# Altium schematic symbol library Mosfet-BLE-Bot-Osc.SchLib: 4 symbols
Pins are listed as number, name and electrical type; pins without a type are passive.

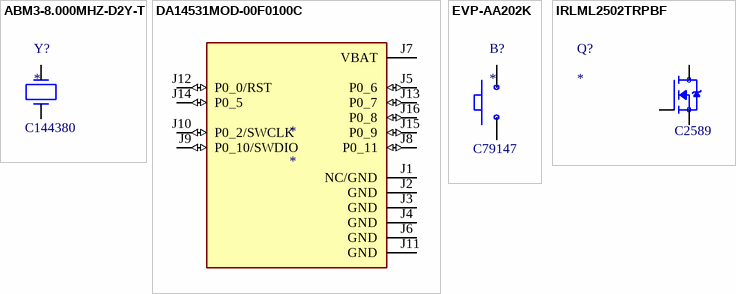
[diagram p0: symbols ABM3-8.000MHZ-D2Y-T to IRLML2502TRPBF]

## ABM3-8.000MHZ-D2Y-T
designator Y?  LCSC: C144380
Crystal 8MHz ±20ppm (Tol) ±30ppm (Stability) 18pF FUND 140Ohm 2-Pin Mini-CSMD T/R; Manufacturer: Abracon; Manufacturer Part Number: ABM3-8.000MHZ-D2Y-T; ESR (Equivalent Series Resistance): 140Ω; Frequency Tolerance: 0.002%; Supplier: DigiKey; Supplier Part Number: 535-10630-1-ND; RoHS: Compliant; Category: Crystals; Stock: 32401; Pricing: 1=0,67, 10=0,585, 25=0,5536, 50=0,5306, 100=0,5087, 250=0,48104, 500=0,46114 (USD); Case/Package: CSMD; China RoHS: Non-Compliant; Composition: Ceramic; Depth: 3.2mm; Frequency: 8MHz; Frequency Stability: 30ppm; Height: 1.3mm; Lead Free: Lead Free; Length: 5mm; Lifecycle Status: Production; Load Capacitance: 18pF; Max Operating Temperature: 85°C; Min Operating Temperature: -40°C; Mounting Technology: Surface Mount; Pins: 2; Packaging: Cut Tape; Radiation Hardening: No; REACH SVHC: Yes; Schedule B: 8541600025, 8541600025|8541600025|8541600025|8541600025|8541600025|8541600025|8541600025|8541600025|8541600025|8541600025|8541600025|8541600025|8541600025|8541600025|8541600025|8541600025|8541600025|8541600025|8541600025|8541600025|8541600025|8541600025|8541600025|85; ESR: 140Ω; Termination: SMD/SMT; Tolerance: 0.002%; Width: 3.2mm; ComponentLink1URL: https://datasheet.octopart.com:443/ABM3-8.000MHZ-D2Y-T-Abracon-datasheet-182205007.pdf?src-supplier=TME; ComponentLink1Description: https://datasheet.octopart.com:443/ABM3-8.000MHZ-D2Y-T-Abracon-datasheet-182205007.pdf?src-supplier=TME; ComponentLink2URL: https://datasheet.octopart.com:443/ABM3-8.000MHZ-D2Y-T-Abracon-datasheet-32780515.pdf?src-supplier=element14+APAC; ComponentLink2Description: https://datasheet.octopart.com:443/ABM3-8.000MHZ-D2Y-T-Abracon-datasheet-32780515.pdf?src-supplier=element14+APAC; ComponentLink3URL: https://datasheet.octopart.com:443/ABM3-8.000MHZ-D2Y-T-Abracon-datasheet-13417521.pdf?src-supplier=element14+APAC; ComponentLink3Description: https://datasheet.octopart.com:443/ABM3-8.000MHZ-D2Y-T-Abracon-datasheet-13417521.pdf?src-supplier=element14+APAC; ComponentLink4URL: https://datasheet.octopart.com:443/ABM3-8.000MHZ-D2Y-T-Abracon-datasheet-8862594.pdf?src-supplier=element14+APAC; ComponentLink4Description: https://datasheet.octopart.com:443/ABM3-8.000MHZ-D2Y-T-Abracon-datasheet-8862594.pdf?src-supplier=element14+APAC; ComponentLink5URL: https://datasheet.octopart.com:443/ABM3-8.000MHZ-D2Y-T-Abracon-datasheet-8853172.pdf?src-supplier=element14+APAC; ComponentLink5Description: https://datasheet.octopart.com:443/ABM3-8.000MHZ-D2Y-T-Abracon-datasheet-8853172.pdf?src-supplier=element14+APAC; ComponentLink6URL: https://datasheet.octopart.com:443/ABM3-8.000MHZ-D2Y-T-Abracon-datasheet-8835795.pdf?src-supplier=element14+APAC; ComponentLink6Description: https://datasheet.octopart.com:443/ABM3-8.000MHZ-D2Y-T-Abracon-datasheet-8835795.pdf?src-supplier=element14+APAC; ComponentLink7URL: https://datasheet.octopart.com:443/ABM3-8.000MHZ-D2Y-T-Abracon-datasheet-8815637.pdf?src-supplier=element14+APAC; ComponentLink7Description: https://datasheet.octopart.com:443/ABM3-8.000MHZ-D2Y-T-Abracon-datasheet-8815637.pdf?src-supplier=element14+APAC; ComponentLink8URL: https://datasheet.octopart.com:443/ABM3-8.000MHZ-D2Y-T-Abracon-datasheet-8808528.pdf?src-supplier=element14+APAC; ComponentLink8Description: https://datasheet.octopart.com:443/ABM3-8.000MHZ-D2Y-T-Abracon-datasheet-8808528.pdf?src-supplier=element14+APAC; ComponentLink9URL: https://datasheet.octopart.com:443/ABM3-8.000MHZ-D2Y-T-Abracon-datasheet-8488864.pdf?src-supplier=element14+APAC; ComponentLink9Description: https://datasheet.octopart.com:443/ABM3-8.000MHZ-D2Y-T-Abracon-datasheet-8488864.pdf?src-supplier=element14+APAC; ComponentLink10URL: https://datasheet.octopart.com:443/ABM3-8.000MHZ-D2Y-T-Abracon-datasheet-8324950.pdf?src-supplier=element14+APAC; ComponentLink10Description: https://datasheet.octopart.com:443/ABM3-8.000MHZ-D2Y-T-Abracon-datasheet-8324950.pdf?src-supplier=element14+APAC; ComponentLink11URL: https://datasheet.octopart.com:443/ABM3-8.000MHZ-D2Y-T-Abracon-datasheet-577709.pdf?src-supplier=element14+APAC; ComponentLink11Description: https://datasheet.octopart.com:443/ABM3-8.000MHZ-D2Y-T-Abracon-datasheet-577709.pdf?src-supplier=element14+APAC; ComponentLink12URL: https://datasheet.octopart.com:443/ABM3-8.000MHZ-D2Y-T-Abracon-datasheet-154724144.pdf?src-supplier=Sager+Electronics; ComponentLink12Description: https://datasheet.octopart.com:443/ABM3-8.000MHZ-D2Y-T-Abracon-datasheet-154724144.pdf?src-supplier=Sager+Electronics; ComponentLink13URL: https://datasheet.octopart.com:443/ABM3-8.000MHZ-D2Y-T-Abracon-datasheet-128558659.pdf?src-supplier=X-ON; ComponentLink13Description: https://datasheet.octopart.com:443/ABM3-8.000MHZ-D2Y-T-Abracon-datasheet-128558659.pdf?src-supplier=X-ON; ComponentLink14URL: https://sigma.octopart.com:443/138895675/technical_drawing/Abracon-ABM3-8.000MHZ-D2Y-T.pdf?src-supplier=Abracon+SCT; ComponentLink14Description: https://sigma.octopart.com:443/138895675/technical_drawing/Abracon-ABM3-8.000MHZ-D2Y-T.pdf?src-supplier=Abracon+SCT; ComponentLink15URL: https://datasheet.octopart.com:443/ABM3-8.000MHZ-D2Y-T-Abracon-datasheet-12514944.pdf?src-supplier=Farnell; ComponentLink15Description: https://datasheet.octopart.com:443/ABM3-8.000MHZ-D2Y-T-Abracon-datasheet-12514944.pdf?src-supplier=Farnell; ComponentLink16URL: http://sigma.octopart.com:80/conflict_mineral_statement/Abracon-company-27.pdf?src-supplier=Compliance+Statements; ComponentLink16Description: http://sigma.octopart.com:80/conflict_mineral_statement/Abracon-company-27.pdf?src-supplier=Compliance+Statements
footprint cristal
pins: 1, 2

## DA14531MOD-00F0100C
designator *
SmartBond TINY Bluetooth Low Energy Module; Manufacturer: Renesas; Manufacturer Part Number: DA14531MOD-00F0100C; Part Family: DA14531MOD; Manufacturer Lifecycle Status: ACTIVE; Max Supply Voltage: 3.6V; Min Supply Voltage: 1.65V; Operating Supply Voltage: 3V; Pitch: 1.5mm; Supplier: Future Electronics; Supplier Part Number: 2153429; RoHS: Compliant; Category: RF Transceiver Modules and Modems; Stock: 300; Pricing: 300=3,38, 600=3,35, 900=3,34, 1200=3,31 (USD); Case/Package: Module; Export Control Classification Number (ECCN) Code: EAR99; Height - Seated (Max): 3.05mm; Harmonized Tariff Schedule (HTS) Code: 8542.39.90; Length: 14.5mm; Lifecycle Status: Production; Max Operating Temperature: 85°C; Min Operating Temperature: -40°C; MSL: 3; Pins: 15; Number of Terminals: 16; Package Quantity: 300; Packaging: Tape & Reel; REACH SVHC: Yes; Terminal Pitch: 1.5mm; Width: 12.5mm; ComponentLink1URL: https://datasheet.octopart.com:443/DA14531MOD-00F0100C-Renesas-datasheet-182587786.pdf?src-supplier=Renesas; ComponentLink1Description: https://datasheet.octopart.com:443/DA14531MOD-00F0100C-Renesas-datasheet-182587786.pdf?src-supplier=Renesas; ComponentLink2URL: https://datasheet.octopart.com:443/DA14531MOD-00F0100C-Renesas-datasheet-169923465.pdf?src-supplier=IHS; ComponentLink2Description: https://datasheet.octopart.com:443/DA14531MOD-00F0100C-Renesas-datasheet-169923465.pdf?src-supplier=IHS; ComponentLink3URL: https://datasheet.octopart.com:443/DA14531MOD-00F0100C-Integrated-Device-Technology-datasheet-179198600.pdf?src-supplier=Integrated+Device+Technology; ComponentLink3Description: https://datasheet.octopart.com:443/DA14531MOD-00F0100C-Integrated-Device-Technology-datasheet-179198600.pdf?src-supplier=Integrated+Device+Technology; ComponentLink4URL: https://datasheet.octopart.com:443/DA14531MOD-00F0100C-Integrated-Device-Technology-datasheet-164000627.pdf?src-supplier=Integrated+Device+Technology; ComponentLink4Description: https://datasheet.octopart.com:443/DA14531MOD-00F0100C-Integrated-Device-Technology-datasheet-164000627.pdf?src-supplier=Integrated+Device+Technology; ComponentLink5URL: http://sigma.octopart.com:80/reach_statement/Renesas-company-45.pdf?src-supplier=Compliance+Statements; ComponentLink5Description: http://sigma.octopart.com:80/reach_statement/Renesas-company-45.pdf?src-supplier=Compliance+Statements; ComponentLink6URL: http://sigma.octopart.com:80/conflict_mineral_statement/Renesas-company-44.pdf?src-supplier=Compliance+Statements; ComponentLink6Description: http://sigma.octopart.com:80/conflict_mineral_statement/Renesas-company-44.pdf?src-supplier=Compliance+Statements
footprint DA14531MOD
pins: J1 NC/GND, J2 GND (power), J3 GND (power), J4 GND (power), J5 P0_6 (io), J6 GND (power), J7 VBAT (power), J8 P0_11 (io), J9 P0_10/SWDIO (io), J10 P0_2/SWCLK (io), J11 GND (power), J12 P0_0/RST (io), J13 P0_7 (io), J14 P0_5 (io), J15 P0_9 (io), J16 P0_8 (io)

## EVP-AA202K
designator B?  LCSC: C79147
Switch Tactile N.O. SPST Rectangular Button J-Bend 0.02A 15VDC 1.6N SMD Embossed T/R; Manufacturer: Panasonic; Manufacturer Part Number: EVP-AA202K; Actuator Length: 300µm; Contact Current Rating: 20mA; Contact Resistance: 100mΩ; Current Rating: 50mA; Electrical Life: 200kcycles; Illumination Type: Illuminated, Non-Illuminated; Max Voltage Rating (DC): 15V; Number of Positions: 1; Switch Function: Off-Mom; Switch Travel: 150µm; Supplier: DigiKey; Supplier Part Number: P13348SCT-ND; RoHS: Compliant; Category: Tactile Switches; Stock: 45; Pricing: 1=0,83, 10=0,709, 25=0,6596, 100=0,5885, 250=0,54516, 500=0,51492, 1000=0,48712, 2500=0,45429 (USD); Case/Package: SMD/SMT; Color: Black; Contact Plating: Gold, Silver; Depth: 2.9mm; Height: 1.4mm; Insulation Resistance: 100MΩ; Lead Free: Lead Free; Length: 4.3mm; Lifecycle Status: Production; Max Current Rating: 20mA; Max Operating Temperature: 85°C; Mechanical Life: 200kcycles; Min Operating Temperature: -40°C; Mounting Technology: Surface Mount; Operating Force: 1.6N; Radiation Hardening: No; REACH SVHC: Yes; Termination: J-Bend; Throw Configuration: SPST; Voltage Rating (DC): 15V; ComponentLink1URL: https://datasheet.octopart.com:443/EVP-AA202K-Panasonic-datasheet-156880147.pdf?src-supplier=Newark; ComponentLink1Description: https://datasheet.octopart.com:443/EVP-AA202K-Panasonic-datasheet-156880147.pdf?src-supplier=Newark; ComponentLink2URL: https://datasheet.octopart.com:443/EVP-AA202K-Panasonic-datasheet-78834739.pdf?src-supplier=Newark; ComponentLink2Description: https://datasheet.octopart.com:443/EVP-AA202K-Panasonic-datasheet-78834739.pdf?src-supplier=Newark; ComponentLink3URL: https://datasheet.octopart.com:443/EVP-AA202K-Panasonic-datasheet-13050113.pdf?src-supplier=Upverter; ComponentLink3Description: https://datasheet.octopart.com:443/EVP-AA202K-Panasonic-datasheet-13050113.pdf?src-supplier=Upverter; ComponentLink4URL: https://datasheet.octopart.com:443/EVP-AA202K-Panasonic-datasheet-138897654.pdf?src-supplier=Master+Electronics; ComponentLink4Description: https://datasheet.octopart.com:443/EVP-AA202K-Panasonic-datasheet-138897654.pdf?src-supplier=Master+Electronics; ComponentLink5URL: https://datasheet.octopart.com:443/EVPAA202K-Panasonic-datasheet-130260647.pdf?src-supplier=TME; ComponentLink5Description: https://datasheet.octopart.com:443/EVPAA202K-Panasonic-datasheet-130260647.pdf?src-supplier=TME; ComponentLink6URL: https://datasheet.octopart.com:443/EVP-AA202K-Panasonic-datasheet-94103455.pdf?src-supplier=Future+Electronics; ComponentLink6Description: https://datasheet.octopart.com:443/EVP-AA202K-Panasonic-datasheet-94103455.pdf?src-supplier=Future+Electronics; ComponentLink7URL: https://datasheet.octopart.com:443/EVP-AA202K-Panasonic-datasheet-84052654.pdf?src-supplier=Future+Electronics; ComponentLink7Description: https://datasheet.octopart.com:443/EVP-AA202K-Panasonic-datasheet-84052654.pdf?src-supplier=Future+Electronics; ComponentLink8URL: https://datasheet.octopart.com:443/EVP-AA202K-Panasonic-datasheet-62282203.pdf?src-supplier=Electro+Sonic; ComponentLink8Description: https://datasheet.octopart.com:443/EVP-AA202K-Panasonic-datasheet-62282203.pdf?src-supplier=Electro+Sonic; ComponentLink9URL: https://datasheet.octopart.com:443/EVPAA202K-Panasonic-datasheet-10854221.pdf?src-supplier=Farnell; ComponentLink9Description: https://datasheet.octopart.com:443/EVPAA202K-Panasonic-datasheet-10854221.pdf?src-supplier=Farnell; ComponentLink10URL: https://datasheet.octopart.com:443/EVP-AA202K-Panasonic-datasheet-124616.pdf?src-supplier=DigiKey; ComponentLink10Description: https://datasheet.octopart.com:443/EVP-AA202K-Panasonic-datasheet-124616.pdf?src-supplier=DigiKey
footprint botão
pins: 1, 3 2

## IRLML2502TRPBF
designator Q?  LCSC: C2589
Transistor: N-MOSFET; unipolar; 12V; 4.3A; 0.05ohm; 1.3W; -55+150 deg.C; SMD; SOT23; Manufacturer: Infineon; Manufacturer Part Number: IRLML2502TRPBF; Manufacturer Package Identifier: Micro3™; Continuous Drain Current (ID): 4.2A; Drain to Source Breakdown Voltage: 20V; Drain to Source Resistance: 45mΩ; Element Configuration: Single; Fall Time: 26ns; Input Capacitance: 740pF; Max Junction Temperature (Tj): 150°C; Max Power Dissipation: 1.25W; Nominal Vgs: 1.2V; Number of Elements: 1; Value: 45mΩ; Rise Time: 10ns; Turn-Off Delay Time: 54ns; Turn-On Delay Time: 7.5ns; Supplier: DigiKey; Supplier Part Number: IRLML2502TRPBFCT-ND; RoHS: Compliant; Category: MOSFETs; Stock: 39178; Pricing: 1=0,52, 10=0,323, 100=0,2053, 500=0,15428, 1000=0,13782 (USD); Case/Package: SOT-23; Contact Plating: Tin; Current Rating: 4.2A; Drain to Source Voltage (Vdss): 20V; Dual Supply Voltage: 20V; Gate to Source Voltage (Vgs): 12V; Height: 1.016mm; Lead Free: Lead Free; Length: 2.794mm; Lifecycle Status: NRND; Max Operating Temperature: 150°C; Min Breakdown Voltage: 20V; Min Operating Temperature: -55°C; Mounting Technology: Surface Mount; Pins: 3; Number of Terminals: 3; On-State Resistance: 45mΩ; Package Quantity: 3000; Packaging: Tape & Reel; Power Dissipation: 1.25W; Radiation Hardening: No; Rds On Max: 45mΩ; REACH SVHC: Yes; Schedule B: 8541290080, 8541290080|8541290080|8541290080|8541290080|8541290080; Termination: SMD/SMT; Threshold Voltage: 1.2V; Voltage Rating (DC): 20V; ComponentLink1URL: https://datasheet.octopart.com:443/IRLML2502TRPBF-Infineon-datasheet-34171437.pdf?src-supplier=IHS; ComponentLink1Description: https://datasheet.octopart.com:443/IRLML2502TRPBF-Infineon-datasheet-34171437.pdf?src-supplier=IHS; ComponentLink2URL: https://datasheet.octopart.com:443/IRLML2502-International-Rectifier-datasheet-180124963.pdf?src-supplier=IHS; ComponentLink2Description: https://datasheet.octopart.com:443/IRLML2502-International-Rectifier-datasheet-180124963.pdf?src-supplier=IHS; ComponentLink3URL: https://datasheet.octopart.com:443/IRLML2502TRPBF-Infineon-datasheet-180073321.pdf?src-supplier=Newark; ComponentLink3Description: https://datasheet.octopart.com:443/IRLML2502TRPBF-Infineon-datasheet-180073321.pdf?src-supplier=Newark; ComponentLink4URL: https://datasheet.octopart.com:443/IRLML2502TRPBF-International-Rectifier-datasheet-28942.pdf?src-supplier=element14+APAC; ComponentLink4Description: https://datasheet.octopart.com:443/IRLML2502TRPBF-International-Rectifier-datasheet-28942.pdf?src-supplier=element14+APAC; ComponentLink5URL: https://datasheet.octopart.com:443/IRLML2502TRPBF-Infineon-datasheet-10898080.pdf?src-supplier=element14+APAC; ComponentLink5Description: https://datasheet.octopart.com:443/IRLML2502TRPBF-Infineon-datasheet-10898080.pdf?src-supplier=element14+APAC; ComponentLink6URL: https://datasheet.octopart.com:443/IRLML2502TRPBF-Infineon-datasheet-7576328.pdf?src-supplier=element14+APAC; ComponentLink6Description: https://datasheet.octopart.com:443/IRLML2502TRPBF-Infineon-datasheet-7576328.pdf?src-supplier=element14+APAC; ComponentLink7URL: https://datasheet.octopart.com:443/IRLML2502TRPBF-International-Rectifier-datasheet-14058069.pdf?src-supplier=iiiC; ComponentLink7Description: https://datasheet.octopart.com:443/IRLML2502TRPBF-International-Rectifier-datasheet-14058069.pdf?src-supplier=iiiC; ComponentLink8URL: https://datasheet.octopart.com:443/IRLML2502-International-Rectifier-datasheet-10851050.pdf?src-supplier=iiiC; ComponentLink8Description: https://datasheet.octopart.com:443/IRLML2502-International-Rectifier-datasheet-10851050.pdf?src-supplier=iiiC; ComponentLink9URL: https://datasheet.octopart.com:443/IRLML2502TRPBF-Infineon-datasheet-9906866.pdf?src-supplier=RS+(Formerly+Allied+Electronics); ComponentLink9Description: https://datasheet.octopart.com:443/IRLML2502TRPBF-Infineon-datasheet-9906866.pdf?src-supplier=RS+(Formerly+Allied+Electronics); ComponentLink10URL: https://datasheet.octopart.com:443/IRLML2502TRPBF-International-Rectifier-datasheet-10470232.pdf?src-supplier=TME; ComponentLink10Description: https://datasheet.octopart.com:443/IRLML2502TRPBF-International-Rectifier-datasheet-10470232.pdf?src-supplier=TME; ComponentLink11URL: https://datasheet.octopart.com:443/IRLML2502TRPBF-International-Rectifier-datasheet-8360198.pdf?src-supplier=Jameco; ComponentLink11Description: https://datasheet.octopart.com:443/IRLML2502TRPBF-International-Rectifier-datasheet-8360198.pdf?src-supplier=Jameco; ComponentLink12URL: https://datasheet.octopart.com:443/IRLML2502TRPBF-International-Rectifier-datasheet-63679.pdf?src-supplier=Farnell; ComponentLink12Description: https://datasheet.octopart.com:443/IRLML2502TRPBF-International-Rectifier-datasheet-63679.pdf?src-supplier=Farnell; ComponentLink13URL: https://datasheet.octopart.com:443/IRLML2502TRPBF-International-Rectifier-datasheet-89315.pdf?src-supplier=DigiKey; ComponentLink13Description: https://datasheet.octopart.com:443/IRLML2502TRPBF-International-Rectifier-datasheet-89315.pdf?src-supplier=DigiKey; ComponentLink14URL: http://sigma.octopart.com:80/conflict_mineral_statement/Infineon-company-51.pdf?src-supplier=Compliance+Statements; ComponentLink14Description: http://sigma.octopart.com:80/conflict_mineral_statement/Infineon-company-51.pdf?src-supplier=Compliance+Statements; ComponentLink15URL: http://sigma.octopart.com:80/rohs_statement/International-Rectifier-company-54.pdf?src-supplier=Compliance+Statements; ComponentLink15Description: http://sigma.octopart.com:80/rohs_statement/International-Rectifier-company-54.pdf?src-supplier=Compliance+Statements; ComponentLink16URL: http://sigma.octopart.com:80/reach_statement/International-Rectifier-company-55.pdf?src-supplier=Compliance+Statements; ComponentLink16Description: http://sigma.octopart.com:80/reach_statement/International-Rectifier-company-55.pdf?src-supplier=Compliance+Statements
footprint mosfet
pins: 1 G, 2 S, 3 D